# Altium footprint library IDC2-3.PcbLib: 1 footprints
Each footprint in its own frame and in the unit in brackets; x right, y up, seen from the top. Pads: shape width x height; smd on the part's side, far side on the other; paste and mask are expansions set on the pad; w line width, h text height; cw(c..) or ccw(c..) is an arc to the next point about the centre after c.
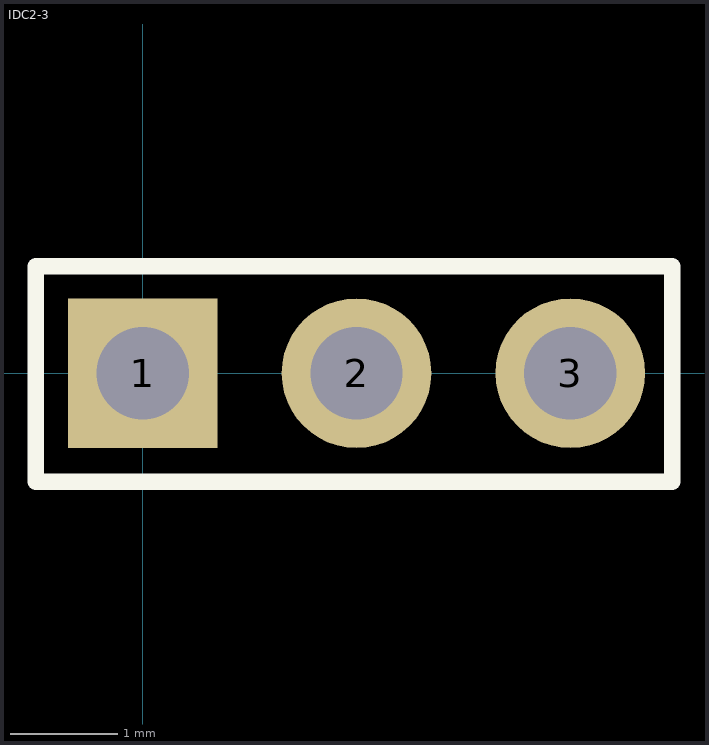
[diagram p0: the footprint, top view; thin cyan lines are the x and y axes]

## IDC2-3 [mm]
pads (3):
  rect 1.4x1.4 hole 0.864: 1(0,0)
  round 1.4 hole 0.864: 2(2,0) 3(4,0)
Top Overlay:
  lines w0.152: -1,-1.016 -1,1 4.953,1 4.953,-1.016 -1,-1.016